# Altium schematic symbol library GRM185R61C475ME11D.SchLib: 1 symbol
Pins are listed as number, name and electrical type; pins without a type are passive.

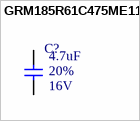
[diagram p0: symbol GRM185R61C475ME11D]

## GRM185R61C475ME11D
designator C?  Rated Voltage: 16V  Tolerance: 20%  Capacitence: 4.7uF  (hidden comment: GRM185R61C475ME11D)
CAP CER 4.7UF 16V X5R 0603; MFR: Murata Electronics; PN: GRM185R61C475ME11D; ComponentLink1Description: Datasheet; ComponentLink1URL: https://search.murata.co.jp/Ceramy/image/img/A01X/G101/ENG/GRM185R61C475ME11-01.pdf; Temperature Coefficient: X5R; Package: 0603; Footprint: C0603; Supplier 1: Digi-Key; Supplier Part Number 1: 490-16347-1-ND
footprint C0603 (Generic C0603 Footprint)
pins: 1, 2